# Altium integrated library GanInverter.IntLib: 62 symbols
Pins are listed as number, name and electrical type; pins without a type are passive.

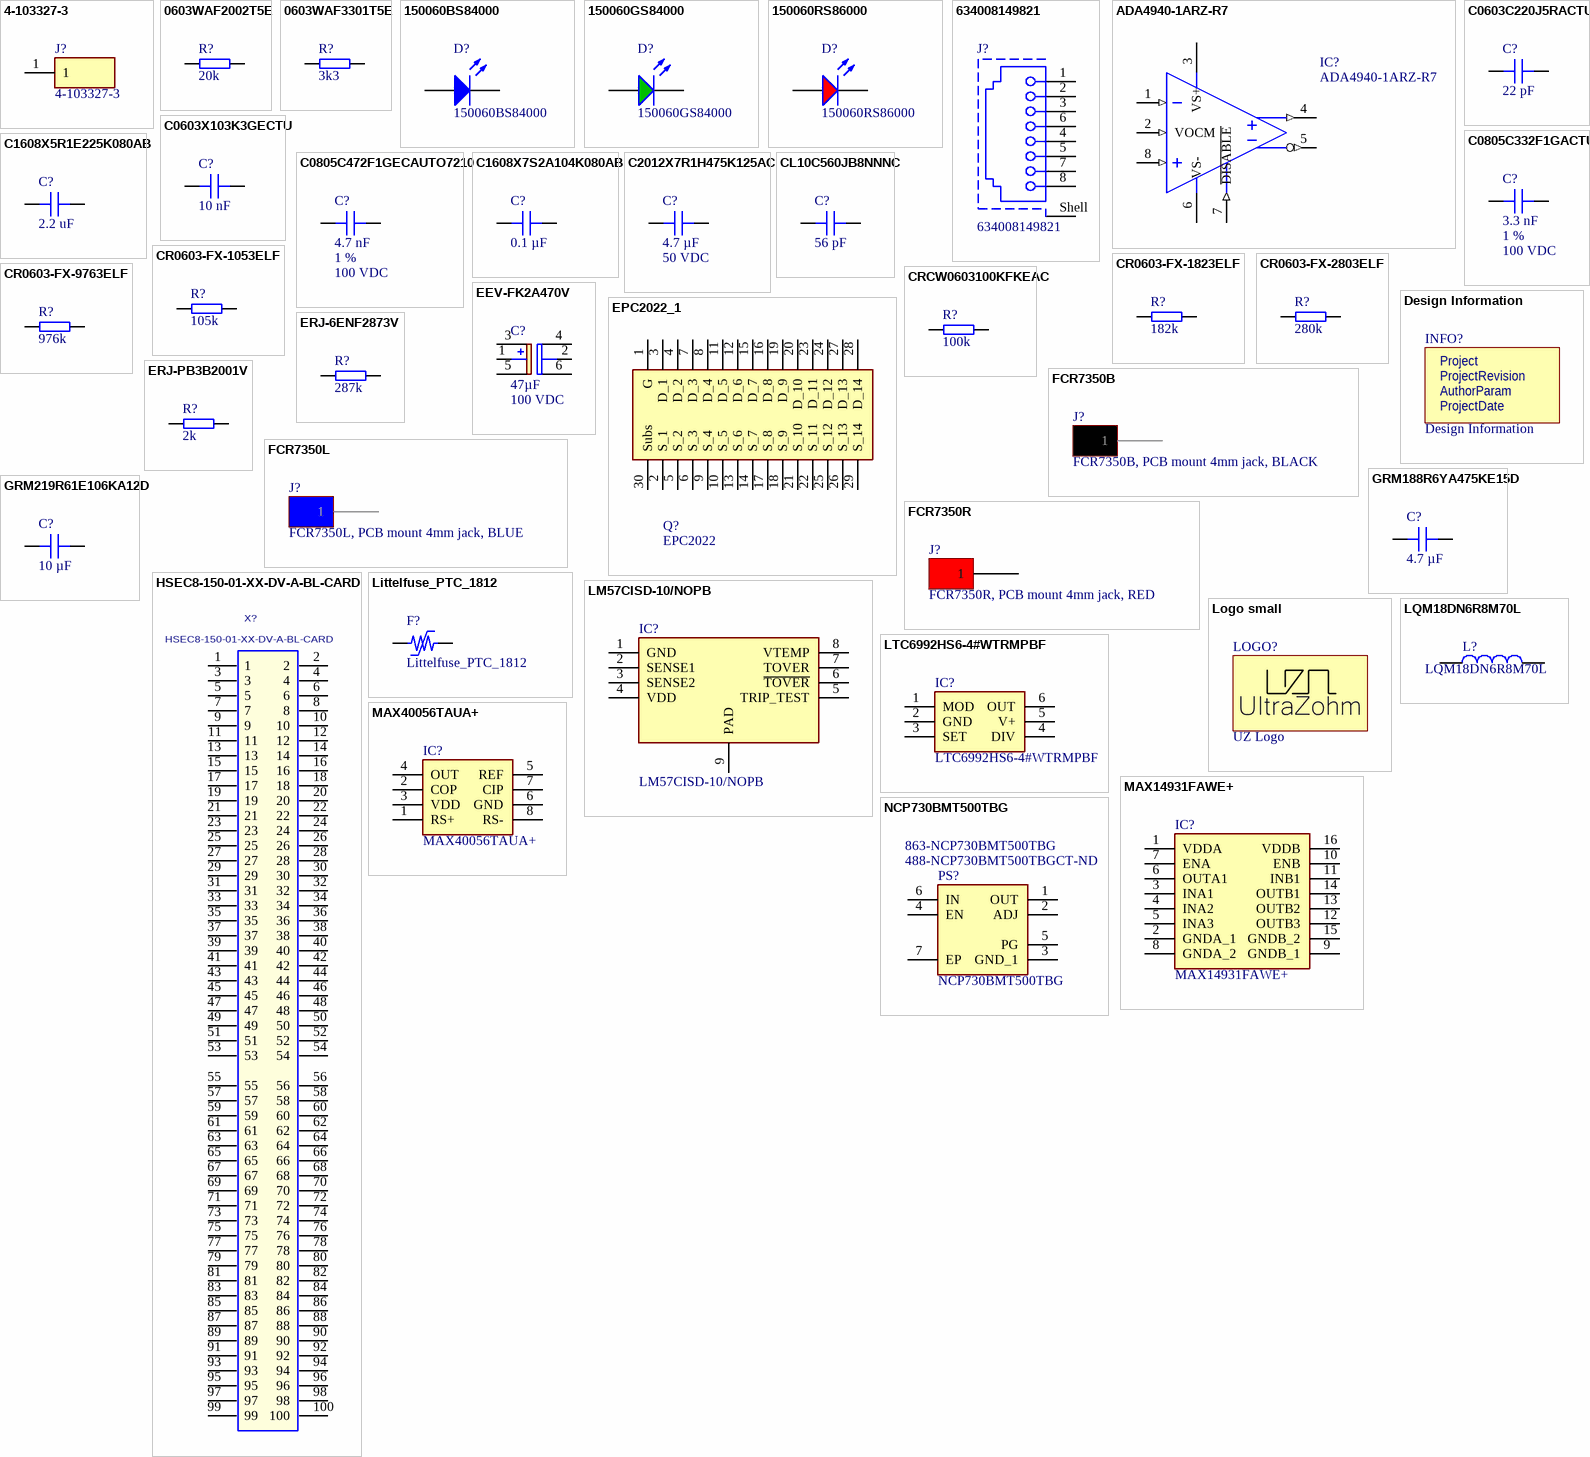
[diagram p0: symbols 4-103327-3 to NCP730BMT500TBG]

## 4-103327-3
designator J?
Pin Header, 2.54mm, 1 Pin; Manufacturer: TE Connectivity; Created from: DHufnagel; Number of positions: 1; Manufacturer Part Number: 4-103327-3; PartID: 12; Created On: 18.08.2022 09:37:37; ComponentLink1Description: Datasheet; ComponentLink1URL: https://www.mouser.de/datasheet/2/418/NG_CD_103327_T_baseFilename-749242.pdf; Component Type: Pin Header; Device Package: THT; Last Updated: 18.08.2022 09:41:31; Mounting Type: THT; Operating Temperature: -65 - 105 °C; Series: AMPMODU MOD II; Supplier 1: Mouser; Supplier Part Number 1: 571-4-103327-3; Type: Pin Header; Live Cycle Status: 1; Stock number: not stored; Number of rows: 1
footprint 1_Pin_Header
pins: 1

## 0603WAF2002T5E
designator R?, comment 20k
SMD resistor E24 series; Manufacturer Part Number: 0603WAF2002T5E; Manufacturer: UNI-ROYAL; Tolerance: 1%; Created from: AGeiger; PartID: 105; Created On: 14.12.2020 16:17:14; ComponentLink1Description: Datasheet; ComponentLink1URL: https://datasheet.lcsc.com/lcsc/2206010230_UNI-ROYAL-Uniroyal-Elec-0603WAF2002T5E_C4184.pdf; Component Type: SMD resistor; Device Package: 0603; Last Updated: 25.08.2022 20:05:50; Mounting Type: SMD; Supplier 1: LCSC; Supplier Part Number 1: C4184; Type: Resistor; Value: 20k; Live Cycle Status: 1; Stock number: Labor SMD Container; LCSC Part Number: C4184
footprint RES 0603_1608
footprint RES 0603_1608 NO TO
pins: 1, 2

## 0603WAF3301T5E
designator R?, comment 3k3
100mW Thick Film Resistors 75V ±100ppm/℃ ±1% -55℃~+155℃ 3.3kΩ 0603  Chip Resistor - Surface Mount ROHS; Manufacturer Part Number: 0603WAF3301T5E; Manufacturer: UNI-ROYAL; Created from: AGeiger; PartID: 245; Created On: 21.09.2022 16:03:17; ComponentLink1Description: Datasheet; ComponentLink1URL: https://datasheet.lcsc.com/lcsc/2206010116_UNI-ROYAL-Uniroyal-Elec-0603WAF3301T5E_C22978.pdf; Component Type: SMD resistor; Device Package: 0603; Last Updated: 21.09.2022 16:03:17; Mounting Type: SMD; Supplier 1: LCSC; Supplier Part Number 1: C22978; Type: Resistor; Tolerance: 1%; Value: 3k3; Live Cycle Status: 1; LCSC Part Number: C22978
footprint RES 0603_1608
pins: 1, 2

## 150060BS84000
designator D?
WL-SMCW SMD Mono-color Chip LED Waterclear Blue; Manufacturer: Wuerth Elektronik; Type: Standard; Created from: MGremer; Forward Current I_f: 20 mA; Forward Voltage U_f: 3.2 V; Wavelength: 470 nm; Light Intensity: 560 mcd; Nominal Power: 78 mW; Manufacturer Part Number: 150060BS84000; PartID: 1; Created On: 08.12.2020 10:19:38; ComponentLink1Description: Datasheet; ComponentLink1URL: https://www.mouser.de/datasheet/2/445/150060BS84000-1838909.pdf; Component Type: LED Diode; Device Package: 0603; Last Updated: 03.03.2021 09:59:51; Mounting Type: SMD; Operating Temperature: -40 - 85 °C; Supplier 1: Mouser; Supplier Part Number 1: 710-150060BS84000; Supplier 2: Farnell; Supplier Part Number 2: 3408611; Supplier 3: Digi-Key; Supplier Part Number 3: 732-150060BS84000CT-ND; Live Cycle Status: 1; Stock number: not stored; Color: blue
footprint WL-SMCW_0603
pins: 1 K, 2 A

## 150060GS84000
designator D?
WL-SMCW SMD Mono-color Chip LED Waterclear Green; Manufacturer: Wuerth Elektronik; Type: Standard; Created from: MGremer; Forward Current I_f: 20 mA; Forward Voltage U_f: 3.2 V; Wavelength: 525 nm; Light Intensity: 3000 mcd; Nominal Power: 78 mW; Manufacturer Part Number: 150060GS84000; PartID: 2; Created On: 08.12.2020 10:41:11; ComponentLink1Description: Datasheet; ComponentLink1URL: https://www.mouser.de/datasheet/2/445/150060GS75020-1714345.pdf; Component Type: LED Diode; Device Package: 0603; Last Updated: 03.03.2021 09:59:51; Mounting Type: SMD; Operating Temperature: -40 - 85 °C; Supplier 1: Mouser; Supplier Part Number 1: 710-150060GS84000; Supplier 2: Farnell; Supplier Part Number 2: 3408612; Supplier 3: Digi-Key; Supplier Part Number 3: 732-150060GS84000CT-ND; Live Cycle Status: 1; Stock number: not stored; Color: green
footprint WL-SMCW_0603
pins: 1 K, 2 A

## 150060RS86000
designator D?
WL-SMCW SMD Mono-color Chip LED Waterclear Red; Manufacturer: Wuerth Elektronik; Type: Standard; Created from: MGremer; Forward Current I_f: 20 mA; Forward Voltage U_f: 2 V; Wavelength: 624 nm; Light Intensity: 800 mcd; Nominal Power: 48 mW; Manufacturer Part Number: 150060RS86000; PartID: 3; Created On: 08.12.2020 10:48:12; ComponentLink1Description: Datasheet; ComponentLink1URL: https://www.mouser.de/datasheet/2/445/150120RS75000-1714636.pdf; Component Type: LED Diode; Device Package: 0603; Last Updated: 03.03.2021 09:59:52; Mounting Type: SMD; Operating Temperature: -40 - 85 °C; Supplier 1: Mouser; Supplier Part Number 1: 710-150060RS86000; Supplier 2: Farnell; Supplier Part Number 2: 3408608; Supplier 3: Digi-Key; Supplier Part Number 3: 732-150060RS86000CT-ND; Live Cycle Status: 1; Stock number: not stored; Color: red
footprint WL-SMCW_0603
pins: 1 K, 2 A

## 634008149821
designator J?
CAT5, RJ45 Connector, 1 port SMD; Manufacturer: Wuerth Elektronik; Match Code: WR-MJ; Contact Resistance: 20mOhm; Insulation Resistance: 500MOhm; LED: No; Number of Ports: 1; Rated Current: 1.5A; Shielding: Yes; Working Voltage: 120VAC; Withstanding Voltage: 1000VAC; Created from: DHufnagel; ComponentLink1Description: Datasheet; ComponentLink1URL: https://www.mouser.de/datasheet/2/445/634008149821-1718453.pdf; ComponentLink2Description: Datasheet; ComponentLink2URL: https://www.we-online.com/redexpert/spec/634008149821?ad; Category: Input/Output Connectors; Manufacturer Part Number: 634008149821; Mount: Surface Mount; Operating Temperature Max: 85°C; Operating Temperature Min: -40°C; Packaging: Tray; Number of Pins: 8P8C; Orientation: Horizontal; PartID: 6; Created On: 15.06.2022 07:42:55; Component Type: RJ45 Connector; Device Package: RJ45; Last Updated: 15.06.2022 07:42:55; Mounting Type: SMD; Series: WR-MJ; Supplier 1: Mouser; Supplier Part Number 1: 710-634008149821; Type: RJ45 Connector; Live Cycle Status: 1; Stock number: not stored
footprint 634008149821
pins: 1, 2, 3, 4, 5, 6, 7, 8, Shell

## ADA4940-1ARZ-R7
designator IC?
Fully Differential Amplifier, Ultralow-Power,Low Distortion, 260-MHz; Manufacturer: Analog Devices; Channels: 1; GBP: 260 MHz; CMRR: 86 dB; Created from: DHufnagel; Manufacturer Part Number: ADA4940-1ARZ-R7; PartID: 14; Created On: 18.08.2022 12:53:27; ComponentLink1Description: Datasheet; ComponentLink1URL: https://www.mouser.de/datasheet/2/609/ada4940_1_4940_2-2955874.pdf; Component Type: Differential Amplifier; Device Package: SOIC-8; Last Updated: 18.08.2022 13:04:18; Mounting Type: SMD; Operating Temperature: -40 - 105°C; Series: ADA4940-1; Supplier 1: Mouser; Supplier Part Number 1: 584-ADA4940-1ARZ; Supplier 2: Digi-Key; Supplier Part Number 2: 505-ADA4940-1ARZ-ND; Supplier 3: LCSC; Supplier Part Number 3: C730049; Type: Differential Amplifiers; Live Cycle Status: 1; LCSC Part Number: C730049; Stock number: not stored
footprint SOT127P600X175-8N
pins: 1 VIN- (in) "Noninverting amplifier input", 2 VOCM (in) "Common-mode voltage input", 3 VS+ (power) "Amplifier positive power-supply input", 4 VOUT+ (out) "Noninverting amplifier output", 5 VOUT- (out) "Inverting amplifier output", 6 VS- (power) "Amplifier negative power-supply input. Note that VS- is tied together on multi-channel devices.", 7 ~{DISABLE} (in) "Disable PIN. PIN = logic high for normal operation. Logic low for disable", 8 VIN+ (in) "Inverting amplifier input"

## C0603C220J5RACTU
designator C?, comment 22 pF
Capacitor 0603, 50 VDC, 22 pF, X7R; Manufacturer Part Number: C0603C220J5RACTU; Manufacturer: KEMET; Tolerance: 5 %; Voltage Rating: 50 VDC; Created from: MGremer; PartID: 78; Created On: 20.12.2020 13:54:13; ComponentLink1Description: Datasheet; ComponentLink1URL: https://www.mouser.de/datasheet/2/212/KEM_C1002_X7R_SMD-1102033.pdf; Component Type: Capacitor 0603; Device Package: 0603; Last Updated: 20.01.2021 13:57:36; Mounting Type: SMD; Operating Temperature: -55 - 125°C; Series: SMD Comm X7R; Supplier 1: Mouser; Supplier Part Number 1: 80-C0603C220J5R; Type: Capacitor; Value: 22 pF; Live Cycle Status: 1; Stock number: not stored
footprint C_0603
pins: 1, 2

## C0603X103K3GECTU
designator C?, comment 10 nF
Capacitor 0603, 25 VDC, 10 nF, C0G; Manufacturer Part Number: C0603X103K3GECTU; Manufacturer: KEMET; Tolerance: 10 %; Voltage Rating: 25 VDC; Created from: DHufnagel; PartID: 114; Created On: 30.11.2022 14:43:11; ComponentLink1Description: Datasheet; ComponentLink1URL: https://www.mouser.de/datasheet/2/212/1/KEM_C1091_C0G_ESD-1140493.pdf; Component Type: Capacitor 0603; Device Package: 0603; Last Updated: 30.11.2022 14:43:11; Mounting Type: SMD; Operating Temperature: -55 - 125°C; Series: ESD SMD Comm C0G Flex; Supplier 1: Mouser; Supplier Part Number 1: 80-C0603X103K3GEC; Type: Capacitor; Value: 10 nF; Live Cycle Status: 1; Stock number: not stored
footprint C_0603
pins: 1, 2

## C0805C332F1GACTU
designator C?, comment 3.3 nF  Tolerance: 1 %  Voltage Rating: 100 VDC
Capacitor 0805, 100 VDC, 3.3 nF, C0G; Manufacturer Part Number: C0805C332F1GACTU; Manufacturer: KEMET; Created from: DHufnagel; PartID: 93; Created On: 13.07.2022 13:54:13; ComponentLink1Description: Datasheet; ComponentLink1URL: https://www.mouser.de/ProductDetail/KEMET/C0805C332F1GACTU?qs=Fn3VdHBzkckTNao1WkcUxA%3D%3D; Component Type: Capacitor 0805; Device Package: 0805; Last Updated: 13.07.2022 14:55:44; Mounting Type: SMD; Operating Temperature: -55 - 125°C; Series: C0G; Supplier 1: Mouser; Supplier Part Number 1: 80-C0805C332F1G; Type: Capacitor; Value: 3.3 nF; Live Cycle Status: 1; Stock number: not stored
footprint C_0805
pins: 1, 2

## C0805C472F1GECAUTO7210
designator C?, comment 4.7 nF  Tolerance: 1 %  Voltage Rating: 100 VDC
Capacitor 0805, 100 VDC, 4.7 nF, C0G; Manufacturer Part Number: C0805C472F1GECAUTO7210; Manufacturer: KEMET; Created from: DHufnagel; PartID: 94; Created On: 13.07.2022 13:54:13; ComponentLink1Description: Datasheet; ComponentLink1URL: https://www.mouser.de/datasheet/2/212/1/KEM_C1091_C0G_ESD-1140493.pdf; Component Type: Capacitor 0805; Device Package: 0805; Last Updated: 13.07.2022 14:55:44; Mounting Type: SMD; Operating Temperature: -55 - 125°C; Series: C0G; Supplier 1: Mouser; Supplier Part Number 1: 80-C0805C472F1GEAULR; Type: Capacitor; Value: 4.7 nF; Live Cycle Status: 1; Stock number: not stored
footprint C_0805
pins: 1, 2

## C1608X5R1E225K080AB
designator C?, comment 2.2 uF
Capacitor 0603, 25 VDC, 2.2 uF, X5R; Manufacturer Part Number: C1608X5R1E225K080AB; Manufacturer: TDK; Tolerance: 10 %; Voltage Rating: 25VDC; Created from: DHufnagel; PartID: 96; Created On: 20.07.2022 09:02:16; ComponentLink1Description: Datasheet; ComponentLink1URL: https://product.tdk.com/system/files/dam/doc/product/capacitor/ceramic/mlcc/catalog/mlcc_commercial_general_en.pdf?ref_disty=mouser; Component Type: Capacitor 0603; Device Package: 0603; Last Updated: 20.07.2022 09:02:16; Mounting Type: SMD; Operating Temperature: -55 - 85°C; Series: X5R; Supplier 1: Mouser; Supplier Part Number 1: 810-C1608X5R1E225K; Supplier 2: LCSC; Supplier Part Number 2: C2167215; Type: Capacitor; Value: 2.2 uF; Live Cycle Status: 1; LCSC Part Number: C2167215; Stock number: not stored
footprint C_0603
pins: 1, 2

## C1608X7S2A104K080AB
designator C?, comment 0.1 µF
Capacitor 0805, 100 VDC, 0.1 uF, X7S; Manufacturer Part Number: C1608X7S2A104K080AB; Manufacturer: TDK; Tolerance: 10 %; Voltage Rating: 100 VDC; Created from: DHufnagel; PartID: 112; Created On: 20.12.2020 13:54:13; ComponentLink1Description: Datasheet; ComponentLink1URL: https://product.tdk.com/system/files/dam/doc/product/capacitor/ceramic/mlcc/catalog/mlcc_commercial_midvoltage_en.pdf?ref_disty=mouser; Component Type: Capacitor 0805; Device Package: 0805; Last Updated: 04.10.2022 13:03:53; Mounting Type: SMD; Operating Temperature: -55 - 125°C; Series: C; Supplier 1: Mouser; Supplier Part Number 1: 810-C1608X7S2A104K; Type: Capacitor; Value: 0.1 µF; Live Cycle Status: 1; Stock number: not stored
footprint C_0603
pins: 1, 2

## C2012X7R1H475K125AC
designator C?, comment 4.7 µF  Voltage Rating: 50 VDC
Capacitor 0805, 50 VDC, 4.7 µF, X7R; Manufacturer Part Number: C2012X7R1H475K125AC; Manufacturer: TDK; Tolerance: 10 %; Created from: MGremer; PartID: 15; Created On: 20.12.2020 13:54:13; ComponentLink1Description: Datasheet; ComponentLink1URL: https://product.tdk.com/info/en/catalog/datasheets/mlcc_commercial_general_en.pdf; Component Type: Capacitor 0805; Device Package: 0805; Last Updated: 20.12.2020 16:34:30; Mounting Type: SMD; Operating Temperature: -55 - 125°C; Series: C; Supplier 1: Mouser; Supplier Part Number 1: 810-C2012X7R475K125C; Type: Capacitor; Value: 4.7 µF; Live Cycle Status: 1; Stock number: Labor SMD Container
footprint C_0805
pins: 1, 2

## CL10C560JB8NNNC
designator C?, comment 56 pF
Capacitor 0603, 50 VDC, 56 pF, C0G; Manufacturer Part Number: CL10C560JB8NNNC; Manufacturer: Samsung Electro-Mechanics; Tolerance: 5 %; Voltage Rating: 50 VDC; Created from: DHufnagel; PartID: 92; Created On: 20.12.2020 13:54:13; ComponentLink1Description: Datasheet; ComponentLink1URL: https://www.mouser.de/datasheet/2/585/MLCC-1837944.pdf; Component Type: Capacitor 0603; Device Package: 0603; Last Updated: 20.12.2020 16:24:16; Mounting Type: SMD; Operating Temperature: -55 - 125°C; Series: CL; Supplier 1: Mouser; Supplier Part Number 1: 187-CL10C560JB8NNNC; Supplier 2: LCSC; Supplier Part Number 2: C39148; Type: Capacitor; Value: 56 pF; Live Cycle Status: 1; LCSC Part Number: C39148; Stock number: not stored
footprint C_0603
pins: 1, 2

## CR0603-FX-1053ELF
designator R?, comment 105k
SMD resistor 1%, 50V, 100ppm; Manufacturer Part Number: CR0603-FX-1053ELF; Manufacturer: Bourns; Created from: DHufnagel; PartID: 232; Created On: 25.07.2022 08:26:35; ComponentLink1Description: Datasheet; ComponentLink1URL: https://www.mouser.de/datasheet/2/54/cr-1858361.pdf; Component Type: SMD resistor; Device Package: 0603; Last Updated: 25.07.2022 08:35:07; Mounting Type: SMD; Supplier 1: Mouser; Supplier Part Number 1: 652-CR0603-FX1053ELF; Type: Resistor; Tolerance: 1%; Value: 105k; Live Cycle Status: 1; Stock number: not stored
footprint RES 0603_1608
footprint RES 0603_1608 NO TO
pins: 1, 2

## CR0603-FX-1823ELF
designator R?, comment 182k
SMD resistor 1%, 50V, 100ppm; Manufacturer Part Number: CR0603-FX-1823ELF; Manufacturer: Bourns; Created from: DHufnagel; PartID: 235; Created On: 25.07.2022 08:26:35; ComponentLink1Description: Datasheet; ComponentLink1URL: https://www.mouser.de/datasheet/2/54/cr-1858361.pdf; Component Type: SMD resistor; Device Package: 0603; Last Updated: 25.07.2022 08:26:35; Mounting Type: SMD; Supplier 1: Mouser; Supplier Part Number 1: 652-CR0603FX-1823ELF; Type: Resistor; Tolerance: 1%; Value: 182k; Live Cycle Status: 1; Stock number: not stored
footprint RES 0603_1608
footprint RES 0603_1608 NO TO
pins: 1, 2

## CR0603-FX-2803ELF
designator R?, comment 280k
SMD resistor 1%, 50V, 100ppm; Manufacturer Part Number: CR0603-FX-2803ELF; Manufacturer: Bourns; Created from: DHufnagel; PartID: 233; Created On: 25.07.2022 08:26:35; ComponentLink1Description: Datasheet; ComponentLink1URL: https://www.mouser.de/datasheet/2/54/cr-1858361.pdf; Component Type: SMD resistor; Device Package: 0603; Last Updated: 25.07.2022 08:26:35; Mounting Type: SMD; Supplier 1: Mouser; Supplier Part Number 1: 652-CR0603-FX2803ELF; Type: Resistor; Tolerance: 1%; Value: 280k; Live Cycle Status: 1; Stock number: not stored
footprint RES 0603_1608
footprint RES 0603_1608 NO TO
pins: 1, 2

## CR0603-FX-9763ELF
designator R?, comment 976k
SMD resistor 1%, 50V, 100ppm; Manufacturer Part Number: CR0603-FX-9763ELF; Manufacturer: Bourns; Created from: DHufnagel; PartID: 234; Created On: 25.07.2022 08:26:35; ComponentLink1Description: Datasheet; ComponentLink1URL: https://www.mouser.de/datasheet/2/54/cr-1858361.pdf; Component Type: SMD resistor; Device Package: 0603; Last Updated: 25.07.2022 08:26:35; Mounting Type: SMD; Supplier 1: Mouser; Supplier Part Number 1: 652-CR0603FX-9763ELF; Type: Resistor; Tolerance: 1%; Value: 976k; Live Cycle Status: 1; Stock number: not stored
footprint RES 0603_1608
footprint RES 0603_1608 NO TO
pins: 1, 2

## CRCW0603100KFKEAC
designator R?, comment 100k
SMD resistor 1%; Manufacturer Part Number: CRCW0603100KFKEAC; Manufacturer: Vishay; Created from: MGremer; PartID: 181; Created On: 14.12.2020 16:17:14; ComponentLink1Description: Datasheet; ComponentLink1URL: https://www.mouser.de/datasheet/2/427/crcwce3-1762584.pdf; Component Type: SMD resistor; Device Package: 0603; Last Updated: 21.05.2021 10:03:40; Mounting Type: SMD; Supplier 1: Mouser; Supplier Part Number 1: 71-CRCW0603100KFKEAC; Type: Resistor; Tolerance: 1%; Value: 100k; Live Cycle Status: 1; Stock number: not stored
footprint RES 0603_1608
footprint RES 0603_1608 NO TO
pins: 1, 2

## Design Information
designator INFO?  (no BOM)
Manufacturer: UltraZohm; Created from: MGremer; Manufacturer Part Number: Design Information; PartID: 12; Created On: 03.11.2021 09:04:23; ComponentLink1Description: https://docs.ultrazohm.com/; ComponentLink1URL: homepage; Component Type: Design Information; Last Updated: 03.11.2021 09:28:34; Supplier 1: -; Supplier Part Number 1: -; Type: Design Information; Value: Design Information; Live Cycle Status: 1
footprint Design_info
text: Project; ProjectRevision; AuthorParam; ProjectDate

## EEV-FK2A470V
designator C?, comment 47µF  Voltage Rating: 100 VDC
13.8x12.5x13.8mm, 100 VDC,  47 µF; Manufacturer Part Number: EEV-FK2A470V; Manufacturer: Panasonic; Type: Capacitor_Polarized; Tolerance: 20 %; Created from: DHufnagel; PartID: 100; Created On: 14.07.2022 14:09:22; ComponentLink1Description: Datasheet; ComponentLink1URL: https://www.mouser.de/datasheet/2/315/ABA0000C1181-947564.pdf; Component Type: Capacitor Al Electrolyt; Device Package: H13; Last Updated: 19.08.2022 08:53:39; Mounting Type: SMD; Operating Temperature: -55 - 105°C; Series: FK-V; Supplier 1: Mouser; Supplier Part Number 1: 667-EEV-FK2A470V; Value: 47µF; Live Cycle Status: 1; Stock number: not stored
footprint EEEFK0J332AV
pins: 1 +_1, 2 -_1, 3 +_2, 4 +_3, 5 -_2, 6 -_3

## EPC2022_1
designator Q?, comment EPC2022
Ganfet N-ch 100V 60A Die; Manufacturer: EPC; Rds On Max: 3.2mR; Input Capacitance: 1.5nF; Supplier 1: Digi-Key; Manufacturer Part Number: EPC2022; RoHS: Yes; Stock 1: 8337; Pricing 1: 1=8,46000, 10=7,63900, 100=6,32430, 500=5,50716 (USD); Mount: Surface Mount; Packaging: Cut Tape; Drain to Source Voltage (Vdss): 100V; Continuous Drain Current (ID): 60A; ComponentLink1URL: http://epc-co.com/epc/Portals/0/epc/documents/datasheets/EPC2022_datasheet.pdf?src-supplier=Digi-Key; ComponentLink1Description: http://epc-co.com/epc/Portals/0/epc/documents/datasheets/EPC2022_datasheet.pdf?src-supplier=Digi-Key
footprint EPC2022
pins: 1 G, 2 S_1, 3 D_1, 4 D_2, 5 S_2, 6 S_3, 7 D_3, 8 D_4, 9 S_4, 10 S_5, 11 D_5, 12 D_6, 13 S_6, 14 S_7, 15 D_7, 16 D_8, 17 S_8, 18 S_9, 19 D_9, 20 D_10, 21 S_10, 22 S_11, 23 D_11, 24 D_12, 25 S_12, 26 S_13, 27 D_13, 28 D_14, 29 S_14, 30 Subs

## ERJ-6ENF2873V
designator R?, comment 287k
SMD resistor 1%; Manufacturer Part Number: ERJ-6ENF2873V; Manufacturer: Panasonic; Created from: MGremer; PartID: 154; Created On: 14.12.2020 16:17:14; ComponentLink1Description: Datasheet; ComponentLink1URL: https://www.mouser.de/datasheet/2/315/AOA0000C304-1149620.pdf; Component Type: SMD resistor; Device Package: 0805; Last Updated: 14.12.2020 18:22:52; Mounting Type: SMD; Supplier 1: Mouser; Supplier Part Number 1: 667-ERJ-6ENF2873V; Type: Resistor; Tolerance: 1%; Value: 287k; Live Cycle Status: 1; Stock number: not stored
footprint RES 0805_2012
pins: 1, 2

## ERJ-PB3B2001V
designator R?, comment 2k
SMD resistor 0.1%; Manufacturer Part Number: ERJ-PB3B2001V; Manufacturer: Panasonic; Created from: DHufnagel; PartID: 215; Created On: 14.12.2020 16:17:14; ComponentLink1Description: Datasheet; ComponentLink1URL: https://www.mouser.de/datasheet/2/315/AOA0000C328-1530132.pdf; Component Type: SMD resistor; Device Package: 0603; Last Updated: 02.03.2021 14:07:32; Mounting Type: SMD; Supplier 1: Mouser; Supplier Part Number 1: 667-ERJ-PB3B2001V; Type: Resistor; Tolerance: 0.1%; Value: 2k; Live Cycle Status: 1; Stock number: not stored; Supplier 2: LCSC; Supplier Part Number 2: C189729; LCSC Part Number: C189729
footprint RES 0603_1608
footprint RES 0603_1608 NO TO
pins: 1, 2

## FCR7350B
designator J?, comment FCR7350B, PCB mount 4mm jack, BLACK
FCR7350B, 1000V, 24A, BLACK; Manufacturer: Cliff; Value: PCB mount 4mm jack, Black	FCR7350B, 1000V, 24A; Created from: DHufnagel; Manufacturer Part Number: FCR7350B; PartID: 6; Created On: 13.06.2022 10:18:11; ComponentLink1Description: datasheet; ComponentLink1URL: https://www.cliffuk.co.uk/products/testleads/sockets/S16NPC.pdf; ComponentLink2Description: drawing; ComponentLink2URL: https://media.digikey.com/pdf/Data%20Sheets/Cliff%20Electronic%20LTD%20PDF's/FCR7350_Drawing.pdf; Component Type: PCB mount 4mm jack, Black; Device Package: THT; Last Updated: 28.06.2022 13:58:37; Minimum Order: 1; Mounting Type: THT; Operating Temperature: -40°C - 80°C; Series: S16N-PC; Supplier 1: Digi-Key; Supplier Part Number 1: 3185-FCR7350B-ND; Supplier 2: farnell; Supplier Part Number 2: 1854507; Type: PCB mount 4mm jack, Black	FCR7350B, 1000V, 24A; Live Cycle Status: 1; Stock number: not stored
footprint FCR7350
pins: 1

## FCR7350L
designator J?, comment FCR7350L, PCB mount 4mm jack, BLUE
FCR7350B, 1000V, 24A, BLUE; Manufacturer: Cliff; Value: PCB mount 4mm jack, Blue FCR7350L, 1000V, 24A; Created from: DHufnagel; Manufacturer Part Number: FCR7350L; PartID: 8; Created On: 13.06.2022 10:18:11; ComponentLink1Description: datasheet; ComponentLink1URL: https://www.cliffuk.co.uk/products/testleads/sockets/S16NPC.pdf; ComponentLink2Description: drawing; ComponentLink2URL: https://media.digikey.com/pdf/Data%20Sheets/Cliff%20Electronic%20LTD%20PDF's/FCR7350_Drawing.pdf; Component Type: PCB mount 4mm jack, Blue; Device Package: THT; Last Updated: 28.06.2022 13:58:37; Minimum Order: 1; Mounting Type: THT; Operating Temperature: -40°C - 80°C; Series: S16N-PC; Supplier 1: Digi-Key; Supplier Part Number 1: 3185-FCR7350L-ND; Supplier 2: farnell; Supplier Part Number 2: 1854511; Type: PCB mount 4mm jack, Blue FCR7350L, 1000V, 24A; Live Cycle Status: 1; Stock number: not stored
footprint FCR7350
pins: 1

## FCR7350R
designator J?, comment FCR7350R, PCB mount 4mm jack, RED
FCR7350B, 1000V, 24A, RED; Manufacturer: Cliff; Value: PCB mount 4mm jack, Red FCR7350R, 1000V, 24A; Created from: DHufnagel; Manufacturer Part Number: FCR7350R; PartID: 7; Created On: 13.06.2022 10:18:11; ComponentLink1Description: datasheet; ComponentLink1URL: https://www.cliffuk.co.uk/products/testleads/sockets/S16NPC.pdf; ComponentLink2Description: drawing; ComponentLink2URL: https://media.digikey.com/pdf/Data%20Sheets/Cliff%20Electronic%20LTD%20PDF's/FCR7350_Drawing.pdf; Component Type: PCB mount 4mm jack, Red; Device Package: THT; Last Updated: 28.06.2022 13:58:37; Minimum Order: 1; Mounting Type: THT; Operating Temperature: -40°C - 80°C; Series: S16N-PC; Supplier 1: Digi-Key; Supplier Part Number 1: 3185-FCR7350R-ND; Supplier 2: farnell; Supplier Part Number 2: 1854508; Type: PCB mount 4mm jack, Red FCR7350R, 1000V, 24A; Live Cycle Status: 1; Stock number: not stored
footprint FCR7350
pins: 1

## GRM188R6YA475KE15D
designator C?, comment 4.7 µF
Capacitor 0603, 35 VDC, 4.7 µF, X5R; Manufacturer Part Number: GRM188R6YA475KE15D; Manufacturer: muRata; Tolerance: 10 %; Voltage Rating: 35 VDC; Created from: MGremer; PartID: 11; Created On: 20.12.2020 13:54:13; ComponentLink1Description: Datasheet; ComponentLink1URL: https://www.mouser.de/datasheet/2/281/murata_03052018_GRM_Series_1-1310166.pdf; Component Type: Capacitor 0603; Device Package: 0603; Last Updated: 20.12.2020 16:34:30; Mounting Type: SMD; Operating Temperature: -55 - 85°C; Series: GRM; Supplier 1: Mouser; Supplier Part Number 1: 81-GRM188R6YA475KE5D; Type: Capacitor; Value: 4.7 µF; Live Cycle Status: 1; Stock number: Labor SMD Container
footprint C_0603
pins: 1, 2

## GRM219R61E106KA12D
designator C?, comment 10 µF
Capacitor 0805, 25 VDC, 10 µF, X5R; Manufacturer Part Number: GRM219R61E106KA12D; Manufacturer: muRata; Tolerance: 10 %; Voltage Rating: 25 VDC; Created from: MGremer; PartID: 13; Created On: 20.12.2020 13:54:13; ComponentLink1Description: Datasheet; ComponentLink1URL: https://www.mouser.de/datasheet/2/281/murata_03052018_GRM_Series_1-1310166.pdf; Component Type: Capacitor 0805; Device Package: 0805; Last Updated: 27.05.2022 14:14:39; Mounting Type: SMD; Operating Temperature: -55 - 85°C; Series: GRM; Supplier 1: Mouser; Supplier Part Number 1: 81-GRM219R61E106KA2D; Type: Capacitor; Value: 10 µF; Live Cycle Status: 1; Stock number: Labor SMD Container; LCSC Part Number: C15850
footprint C_0805
pins: 1, 2

## HSEC8-150-01-XX-DV-A-BL-CARD
designator X?  (no BOM)
Mating Card Layout for HSEC8-150-01-XX-DV-A-BL; Manufacturer: SAMTEC; Created: 2018_04_23_AGeiger; Value: HSEC8-150-01-XX-DV-A-BL-CARD
footprint HSEC8-150-01-XX-DV-A-BL-CARD
pins: 1, 2, 3, 4, 5, 6, 7, 8, 9, 10, 11, 12, 13, 14, 15, 16, 17, 18, 19, 20, 21, 22, 23, 24, 25, 26, 27, 28, 29, 30, 31, 32, 33, 34, 35, 36, 37, 38, 39, 40, 41, 42, 43, 44, 45, 46, 47, 48, 49, 50, 51, 52, 53, 54, 55, 56, 57, 58, 59, 60, 61, 62, 63, 64, 65, 66, 67, 68, 69, 70, 71, 72, 73, 74, 75, 76, 77, 78, 79, 80, 81, 82, 83, 84, 85, 86, 87, 88, 89, 90, 91, 92, 93, 94, 95, 96, 97, 98, 99, 100

## Littelfuse_PTC_1812
designator F?
POLYSWITCH RESETTABLE DEVICES; MPN: miniASMDC110F/24; Value: PTC, 1.1 A, 24V; Voltage: 24V; Trip Current: 2.2A; Hold Current: 1.1A; Resistance: 0.18 Ohm; Type: Fuse; Nominal current: 1 A; Created from: MHlatky; MF: Littelfuse; Created: 2019_02_10_AGeiger; Package: 1812; ComponentLink1URL: https://www.littelfuse.com/~/media/electronics/datasheets/resettable_ptcs/littelfuse_ptc_surface_mount_catalog_datasheet.pdf.pdf; ComponentLink1Description: Datasheet; Manufacturer Part Number: Littelfuse_PTC_1812; PartID: 5; Created On: 07.05.2021 06:50:33; Component Type: Littelfuse_PTC_1812; Last Updated: 27.05.2022 15:06:17; Manufacturer: Littelfuse; Mounting Type: SMD; Operating Temperature: -40 - 85 °C; Supplier 1: Mouser; Supplier Part Number 1: 530-0ZCG0150BF2C; Live Cycle Status: 1; LCSC Part Number: C70119
footprint 1812_PTC_Polyfuse_Littelfuse (Chip Fuse, 2-Leads, Body 4.6x3.24mm)
pins: 1, 2

## LM57CISD-10/NOPB
designator IC?
Board Mount Temperature Sensor, -50 - 150°C; Manufacturer: Texas Instruments; Created from: DHufnagel; Manufacturer Part Number: LM57CISD-10/NOPB; PartID: 5; Created On: 30.06.2022 08:21:10; ComponentLink1Description: Datasheet; ComponentLink1URL: https://www.ti.com/general/docs/suppproductinfo.tsp?distId=26&gotoUrl=https://www.ti.com/lit/gpn/lm57; Component Type: Temperature Sensors; Device Package: WSON-8; Last Updated: 30.06.2022 08:21:20; Mounting Type: SMD; Operating Temperature: -50 - 150°C; Supplier 1: Mouser; Supplier Part Number 1: 926-LM57CISD-10/NOPB; Supplier 2: Digi-Key; Supplier Part Number 2: LM57CISD-10/NOPBCT-ND; Type: Temperature Sensor; Live Cycle Status: 1; Stock number: not stored
footprint SON50P250X250X80-9N
pins: 1 GND, 2 SENSE1, 3 SENSE2, 4 VDD, 5 TRIP_TEST, 6 ~{TOVER}, 7 TOVER, 8 VTEMP, 9 PAD

## Logo small
designator LOGO?, comment UZ Logo  (no BOM)
Manufacturer Part Number: Logo small; Manufacturer: UltraZohm; Created from: MGremer; Created: Jan2021_Liegmann; Value: Logo; PartID: 10; Created On: 03.11.2021 09:04:23; ComponentLink1Description: https://docs.ultrazohm.com/; ComponentLink1URL: homepage; Component Type: Logo; Last Updated: 03.11.2021 09:05:50; Supplier 1: -; Supplier Part Number 1: -; Type: Logo; Live Cycle Status: 1
footprint UZ_Logo_small

## LQM18DN6R8M70L
designator L?
6.8µH, 120mA, 0603, 740mOhm, 20%; MPN: B82464G4154M; Manufacturer: Murata; MF: EPCOS / TDK; Value: 6.8uH; DCR: 320m; Rated Current: 0.85 A; Type: fixed inductor; Created from: DHufnagel; Supplier 1: Mouser; Supplier Part Number 1: 81-LQM18DN6R8M70L; Manufacturer Part Number: LQM18DN6R8M70L; PartID: 10; Created On: 19.07.2022 15:47:17; ComponentLink1Description: Datasheet; ComponentLink1URL: https://www.mouser.de/datasheet/2/281/1/JELF243B_0086-2298241.pdf; Component Type: SMD fixed inductor; Device Package: SMD; Last Updated: 19.07.2022 15:47:44; Mounting Type: SMD; Operating Temperature: -40 - 125°C; Series: LQM18DN_70; Supplier 2: Digi-Key; Supplier Part Number 2: 490-LQM18DN6R8M70LCT-ND; DC current: 120mA; Live Cycle Status: 1; Stock number: not stored
footprint INDC1608X95N
pins: 1, 2

## LTC6992HS6-4#WTRMPBF
designator IC?
Switching Controllers PWM with 5% to 100% Pulse Width Control; Manufacturer: Analog Devices; Created from: DHufnagel; Manufacturer Part Number: LTC6992HS6-4#WTRMPBF; PartID: 9; Created On: 20.07.2022 14:30:26; ComponentLink1Description: Datasheet; ComponentLink1URL: https://www.mouser.de/datasheet/2/609/LTC6992-1-6992-2-6992-3-6992-4-1852873.pdf; Component Type: Switching Controllers; Device Package: SOT-23-6; Last Updated: 20.07.2022 14:30:26; Mounting Type: SMD; Operating Temperature: -40 - 125°C; Supplier 1: Mouser; Supplier Part Number 1: 584-6992HS64WTRMPBF; Type: Switching Controller; Live Cycle Status: 1; Stock number: not stored
footprint SOT95P280X100-6N
pins: 1 MOD, 2 GND, 3 SET, 4 DIV, 5 V+, 6 OUT

## MAX14931FAWE+
designator IC?
Digital Isolator 16-Pin SOIC W Tube; Manufacturer: Maxim; Number of Channels: 4; Channel Type: Unidirectional; Data Rate: 150Mbps; Propagation Delay: 7.4ns; Isolated Power: No; Pulse Width Distortion (PWD): 1ns; Manufacturer Part Number: MAX14931FAWE+; RoHS: Yes; Category: Interface ICs; Pricing 1: 138=3,67000 (EUR); Case/Package: SOIC; Min Operating Temperature: -40°C; Max Operating Temperature: 125°C; Packaging: Rail/Tube; Type: General Purpose; RoHS Compliant: Yes; ComponentLink1URL: https://datasheets.maximintegrated.com/en/ds/MAX14130-MAX14932.pdf?src-supplier=Digi-Key; ComponentLink1Description: https://datasheets.maximintegrated.com/en/ds/MAX14130-MAX14932.pdf?src-supplier=Digi-Key; Supplier 1: Mouser; Supplier Part Number 1: 700-MAX14931FAWE+
footprint SOIC-16 (SOIC, 16-Leads, Body 10.5x7.6mm, Pitch 1.27mm, IPC Low Density)
pins: 1 VDDA, 2 GNDA_1, 3 INA1, 4 INA2, 5 INA3, 6 OUTA1, 7 ENA, 8 GNDA_2, 9 GNDB_1, 10 ENB, 11 INB1, 12 OUTB3, 13 OUTB2, 14 OUTB1, 15 GNDB_2, 16 VDDB

## MAX40056TAUA+
designator IC?
Current Sense Amplifier, 300kHz, -0.1V to 65V CMV, 2 Channel; Manufacturer_Name: Maxim Integrated; Channels: 2; CMRR: 140dB; Created from: DHufnagel; Datasheet Link: https://pdfserv.maximintegrated.com/en/ds/MAX40056F-MAX40056U.pdf; Height: 1.1mm; Manufacturer_Part_Number: MAX40056TAUA+; Mouser Part Number: 700-MAX40056TAUA+; Mouser Price/Stock: https://www.mouser.co.uk/ProductDetail/Maxim-Integrated/MAX40056TAUA%2b?qs=wnTfsH77Xs6U0RpBmDIzAw%3D%3D; Arrow Part Number: MAX40056TAUA+; Arrow Price/Stock: https://www.arrow.com/en/products/max40056taua/maxim-integrated?region=nac; Manufacturer Part Number: MAX40056TAUA+; PartID: 17; Created On: 25.11.2022 14:49:51; ComponentLink1Description: Datasheet; ComponentLink1URL: https://datasheets.maximintegrated.com/en/ds/MAX40056F-MAX40056U.pdf; Component Type: Operational Amplifier; Device Package: uMAX-8; Last Updated: 25.11.2022 14:49:51; Manufacturer: Maxim Integrated; Mounting Type: SMD; Operating Temperature: -40 to +125°C; Series: MAX40056; Supplier 1: Mouser; Supplier Part Number 1: 700-MAX40056TAUA+; Type: Current Sense Amplifier; GBP: 300 kHz; Live Cycle Status: 1; Stock number: not stored
footprint SOP65P490X110-8N
pins: 1 RS+, 2 COP, 3 VDD, 4 OUT, 5 REF, 6 GND, 7 CIP, 8 RS-

## NCP730BMT500TBG
designator PS?  Supplier Part Number 1: 488-NCP730BMT500TBGCT-ND  Supplier Part Number 2: 863-NCP730BMT500TBG
LDO Regulator, 150 mA, 38 V, 1 uA IQ, with PG 5V0 HZ, WDFN6 2x2; Manufacturer: ON Semiconductor; Manufacturer Part Number: NCP730BMT500TBG; RoHS: Yes; Category: Voltage Regulators - Linear; Stock 1: 2129; Pricing 1: 1=1,12000, 10=1,00200, 25=0,95080, 100=0,78090, 250=0,72996, 500=0,64508, 1000=0,50928 (USD); Supplier 1: Digi-Key; Supplier 2: Mouser
footprint SON65P200X200X80-7N
pins: 1 OUT, 2 ADJ, 3 GND_1, 4 EN, 5 PG, 6 IN, 7 EP

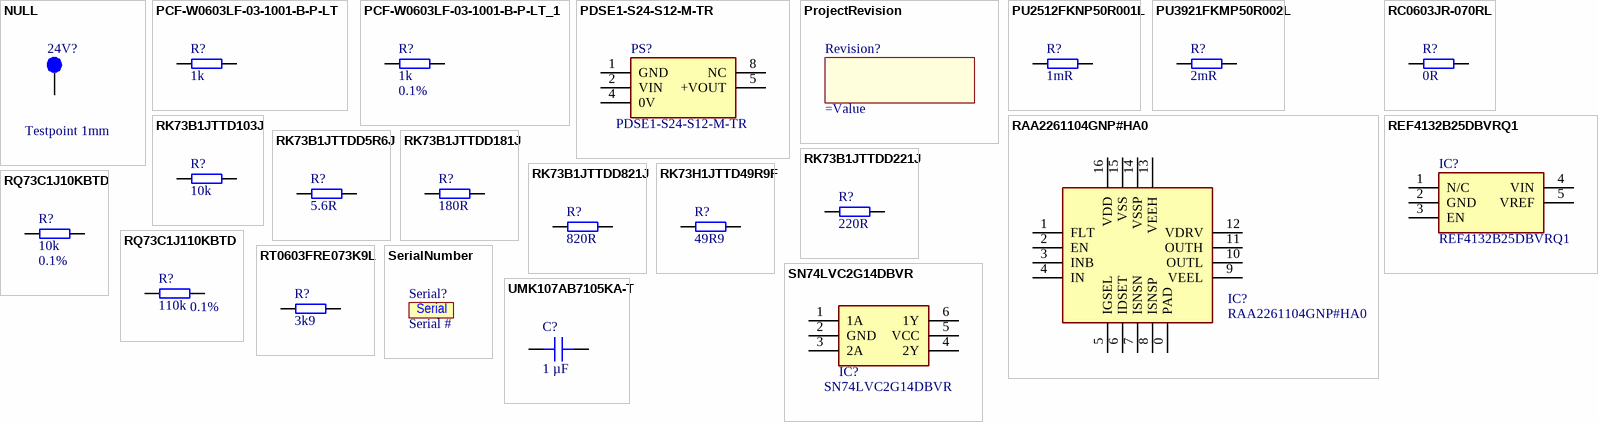
[diagram p1: symbols NULL to UMK107AB7105KA-T]

## NULL
designator 24V?, comment Testpoint 1mm
Manufacturer Part Number: NULL; Created from: AGeiger; Created: 2018_06_25_AGeiger; Value: Testpoint 1mm; PartID: 9; Created On: 20.09.2022 13:14:57; Component Type: Testpoint; Last Updated: 20.09.2022 13:15:39; Manufacturer: NULL; Supplier 1: NULL; Supplier Part Number 1: NULL; Type: Testpoint; Live Cycle Status: 1
footprint TP_1mm
pins: 1

## PCF-W0603LF-03-1001-B-P-LT
designator R?, comment 1k
SMD resistor 0.1%; Manufacturer Part Number: PCF-W0603LF-03-1001-B-P-LT; Manufacturer: IRC / TT Electronics; Created from: MGremer; PartID: 163; Created On: 14.12.2020 16:17:14; ComponentLink1Description: Datasheet; ComponentLink1URL: https://www.mouser.de/datasheet/2/414/PCF-1528243.pdf; Component Type: SMD resistor; Device Package: 0603; Last Updated: 02.03.2021 14:07:32; Mounting Type: SMD; Supplier 1: Mouser; Supplier Part Number 1: 66-PCFW0603LF031001B; Type: Resistor; Tolerance: 0.1%; Value: 1k; Live Cycle Status: 1; Stock number: not stored
footprint RES 0603_1608
footprint RES 0603_1608 NO TO
pins: 1, 2

## PCF-W0603LF-03-1001-B-P-LT_1
designator R?, comment 1k  Tolerance: 0.1%
SMD resistor 0.1%; Manufacturer Part Number: PCF-W0603LF-03-1001-B-P-LT; Manufacturer: IRC / TT Electronics; Created from: MGremer; PartID: 163; Created On: 14.12.2020 16:17:14; ComponentLink1Description: Datasheet; ComponentLink1URL: https://www.mouser.de/datasheet/2/414/PCF-1528243.pdf; Component Type: SMD resistor; Device Package: 0603; Last Updated: 02.03.2021 14:07:32; Mounting Type: SMD; Supplier 1: Mouser; Supplier Part Number 1: 66-PCFW0603LF031001B; Type: Resistor; Live Cycle Status: 1; Stock number: not stored
footprint RES 0603_1608
footprint RES 0603_1608 NO TO
pins: 1, 2

## PDSE1-S24-S12-M-TR
designator PS?
Isolated, 21.6 -26.4Vin, 12V out, 1W, 84mA out; Manufacturer: CUI Inc.; Created from: DHufnagel; Manufacturer Part Number: PDSE1-S24-S12-M-TR; PartID: 21; Created On: 19.07.2022 14:22:00; ComponentLink1Description: Datasheet; ComponentLink1URL: https://www.mouser.de/datasheet/2/670/pdse1_m-1596038.pdf; Component Type: Isolated DC-DC Converter; Device Package: SMT-5; Last Updated: 19.07.2022 14:22:00; Mounting Type: SMT; Operating Temperature: -40 - 105°C; Series: PDSE1-M; Supplier 1: Mouser; Supplier Part Number 1: 490-PDSE1-S24-S12MTR; Supplier 2: Digi-Key; Supplier Part Number 2: 102-PDSE1-S24-S12-M-TRCT-ND; Type: isolated DC-DC Converter; Value: 1 W; Live Cycle Status: 1; Stock number: not stored
footprint PDSE1S24S12MTR
pins: 1 GND, 2 VIN, 4 0V, 5 +VOUT, 8 NC

## ProjectRevision
designator Revision?  (no BOM)
Value: =ProjectRevision; Created: 2020-01-08_Thilo_Wendt
footprint Designator:comment (prints out designator and comment of a component)

## PU2512FKNP50R001L
designator R?, comment 1mR
Shunt 0.001R, 5W, 1%, 50ppm/°C; Manufacturer: Yageo; Manufacturer Part Number: PU2512FKNP50R001L; RoHS: Yes; Stock 1: 2359; Pricing 1: 1=1,14000, 10=1,02000, 50=0,83000, 100=0,71900, 1000=0,42500, 10000=0,42400 (USD); Value: 1mR; Category: Chip SMD Resistors; Supplier 1: Mouser; Supplier Part Number 1: 603-PU2512FKNP50R01L
footprint R_2512
pins: 1, 2

## PU3921FKMP50R002L
designator R?, comment 2mR
Shunt resistor 2mOhm, 5W, 1%; Manufacturer Part Number: PU3921FKMP50R002L; Manufacturer: YAGEO; Created from: DHufnagel; PartID: 236; Created On: 12.07.2022 07:38:48; ComponentLink1Description: Datasheet; ComponentLink1URL: https://www.mouser.de/datasheet/2/447/PYu_PU_51_RoHS_L_8-3003083.pdf; Component Type: Shunt SMD resistor; Device Package: 3921; Last Updated: 19.08.2022 12:28:29; Mounting Type: SMD; Supplier 1: Mouser; Supplier Part Number 1: 603-PU3921FKMP50R002; Type: Shunt; Tolerance: 1%; Value: 2mR; Live Cycle Status: 1; Stock number: not stored
footprint 3921
pins: 1, 2

## RAA2261104GNP#HA0
designator IC?
Low -Side GaN FET-Driver, 6,5V - 18V; Manufacturer: Renesas; Manufacturer Part Number: RAA2261104GNP#HA0; RoHS: No; Pricing 1: 75=3,32000, 100=2,88000, 250=2,42000, 500=2,34000 (USD); Supplier 1: Digi-Key; Supplier Part Number 1: 20-RAA2261104GNP#HA0CT-ND
footprint RAA2261104GNP#HA0
pins: 0 PAD, 1 FLT, 2 EN, 3 INB, 4 IN, 5 IGSEL, 6 IDSET, 7 ISNSN, 8 ISNSP, 9 VEEL, 10 OUTL, 11 OUTH, 12 VDRV, 13 VEEH, 14 VSSP, 15 VSS, 16 VDD

## RC0603JR-070RL
designator R?, comment 0R
SMD resistor E24 series; Manufacturer Part Number: RC0603JR-070RL; Manufacturer: YAGEO; Tolerance: 5%; Created from: MGremer; PartID: 1; Created On: 14.12.2020 16:17:14; ComponentLink1Description: Datasheet; ComponentLink1URL: https://www.mouser.de/datasheet/2/447/PYu-RC_Group_51_RoHS_L_10-1664068.pdf; Component Type: SMD resistor; Device Package: 0603; Last Updated: 04.03.2021 09:09:42; Mounting Type: SMD; Supplier 1: Mouser; Supplier Part Number 1: 603-RC0603JR-070RL; Supplier 2: LCSC; Supplier Part Number 2: C21189; Type: Resistor; Value: 0R; Live Cycle Status: 1; Stock number: Labor SMD Container; LCSC Part Number: C21189
footprint RES 0603_1608
footprint RES 0603_1608 NO TO
pins: 1, 2

## REF4132B25DBVRQ1
designator IC?
Voltage Reference, 2.5V, ±0.05%, ±10mA; Manufacturer: Texas Instruments; Created from: DHufnagel; Manufacturer Part Number: REF4132B25DBVRQ1; PartID: 10; Created On: 08.07.2022 12:48:56; ComponentLink1Description: Datasheet; ComponentLink1URL: https://www.ti.com/general/docs/suppproductinfo.tsp?distId=26&gotoUrl=https://www.ti.com/lit/gpn/ref4132-q1; Component Type: Voltage Reference; Device Package: SMD; Last Updated: 08.07.2022 12:59:37; Mounting Type: SMD; Operating Temperature: -40 - 125 °C; Series: -40 - 125 °C; Supplier 1: Mouser; Supplier Part Number 1: 595-REF4132B25DBVRQ1; Supplier 2: Digi-Key; Supplier Part Number 2: 296-REF4132B25DBVRQ1CT-ND; Type: Voltage Reference; Value: 2.5 V; Live Cycle Status: 1; Stock number: not stored
footprint SOT95P280X145-5N
pins: 1 N/C, 2 GND, 3 EN, 4 VIN, 5 VREF

## RK73B1JTTD103J
designator R?, comment 10k
SMD resistor E24 series; Manufacturer Part Number: RK73B1JTTD103J; Manufacturer: KOA Speer; Tolerance: 5%; Created from: MGremer; PartID: 98; Created On: 14.12.2020 16:17:14; ComponentLink1Description: Datasheet; ComponentLink1URL: https://www.mouser.de/datasheet/2/219/RK73B-1825463.pdf; Component Type: SMD resistor; Device Package: 0603; Last Updated: 27.05.2022 14:04:22; Mounting Type: SMD; Supplier 1: Mouser; Supplier Part Number 1: 660-RK73B1JTTD103J; Type: Resistor; Value: 10k; Live Cycle Status: 1; Stock number: Labor SMD Container; LCSC Part Number: C25804
footprint RES 0603_1608
footprint RES 0603_1608 NO TO
pins: 1, 2

## RK73B1JTTDD5R6J
designator R?, comment 5.6R
SMD resistor E24 series; Manufacturer Part Number: RK73B1JTTDD5R6J; Manufacturer: KOA Speer; Tolerance: 5%; Created from: MGremer; PartID: 20; Created On: 14.12.2020 16:17:14; ComponentLink1Description: Datasheet; ComponentLink1URL: https://www.mouser.de/datasheet/2/219/RK73B-1825463.pdf; Component Type: SMD resistor; Device Package: 0603; Last Updated: 02.03.2021 14:07:32; Mounting Type: SMD; Supplier 1: Mouser; Supplier Part Number 1: 660-RK73B1JTTDD5R6J; Type: Resistor; Value: 5.6R; Live Cycle Status: 1; Stock number: Labor SMD Container
footprint RES 0603_1608
footprint RES 0603_1608 NO TO
pins: 1, 2

## RK73B1JTTDD181J
designator R?, comment 180R
SMD resistor E24 series; Manufacturer Part Number: RK73B1JTTDD181J; Manufacturer: KOA Speer; Tolerance: 5%; Created from: MGremer; PartID: 56; Created On: 14.12.2020 16:17:14; ComponentLink1Description: Datasheet; ComponentLink1URL: https://www.mouser.de/datasheet/2/219/RK73B-1825463.pdf; Component Type: SMD resistor; Device Package: 0603; Last Updated: 27.05.2022 13:42:11; Mounting Type: SMD; Supplier 1: Mouser; Supplier Part Number 1: 660-RK73B1JTTDD181J; Type: Resistor; Value: 180R; Live Cycle Status: 1; Stock number: Labor SMD Container; LCSC Part Number: C22828
footprint RES 0603_1608
footprint RES 0603_1608 NO TO
pins: 1, 2

## RK73B1JTTDD221J
designator R?, comment 220R
SMD resistor E24 series; Manufacturer Part Number: RK73B1JTTDD221J; Manufacturer: KOA Speer; Tolerance: 5%; Created from: MGremer; PartID: 58; Created On: 14.12.2020 16:17:14; ComponentLink1Description: Datasheet; ComponentLink1URL: https://www.mouser.de/datasheet/2/219/RK73B-1825463.pdf; Component Type: SMD resistor; Device Package: 0603; Last Updated: 02.03.2021 14:07:32; Mounting Type: SMD; Supplier 1: Mouser; Supplier Part Number 1: 660-RK73B1JTTDD221J; Type: Resistor; Value: 220R; Live Cycle Status: 1; Stock number: Labor SMD Container
footprint RES 0603_1608
footprint RES 0603_1608 NO TO
pins: 1, 2

## RK73B1JTTDD821J
designator R?, comment 820R
SMD resistor E24 series; Manufacturer Part Number: RK73B1JTTDD821J; Manufacturer: KOA Speer; Tolerance: 5%; Created from: MGremer; PartID: 72; Created On: 14.12.2020 16:17:14; ComponentLink1Description: Datasheet; ComponentLink1URL: https://www.mouser.de/datasheet/2/219/RK73B-1825463.pdf; Component Type: SMD resistor; Device Package: 0603; Last Updated: 02.03.2021 14:07:32; Mounting Type: SMD; Supplier 1: Mouser; Supplier Part Number 1: 660-RK73B1JTTDD821J; Type: Resistor; Value: 820R; Live Cycle Status: 1; Stock number: Labor SMD Container
footprint RES 0603_1608
footprint RES 0603_1608 NO TO
pins: 1, 2

## RK73H1JTTD49R9F
designator R?, comment 49R9
SMD resistor 1%; Manufacturer Part Number: RK73H1JTTD49R9F; Manufacturer: KOA Speer; Created from: DHufnagel; PartID: 214; Created On: 14.12.2020 16:17:14; ComponentLink1Description: Datasheet; ComponentLink1URL: https://www.mouser.de/datasheet/2/219/RK73H-1825326.pdf; Component Type: SMD resistor; Device Package: 0603; Last Updated: 27.05.2022 13:46:35; Mounting Type: SMD; Supplier 1: Mouser; Supplier Part Number 1: 660-RK73H1JTTD49R9F; Supplier 2: LCSC; Supplier Part Number 2: C160046; Type: Resistor; Tolerance: 1%; Value: 49R9; Live Cycle Status: 1; Stock number: not stored; LCSC Part Number: C160046
footprint RES 0603_1608
footprint RES 0603_1608 NO TO
pins: 1, 2

## RQ73C1J10KBTD
designator R?, comment 10k  Tolerance: 0.1%
SMD resistor 0.1%, 10ppm; Manufacturer Part Number: RQ73C1J10KBTD; Manufacturer: TE Connectivity; Created from: DHufnagel; PartID: 231; Created On: 14.12.2020 16:17:14; ComponentLink1Description: Datasheet; ComponentLink1URL: https://www.mouser.de/datasheet/2/418/5/ENG_DS_1773270_2_B-1533717.pdf; Component Type: SMD resistor; Device Package: 0603; Last Updated: 25.07.2022 10:07:28; Mounting Type: SMD; Supplier 1: Mouser; Supplier Part Number 1: 279-RQ73C1J10KBTD; Type: Resistor; Value: 10k; Live Cycle Status: 1; Stock number: not stored
footprint RES 0603_1608
footprint RES 0603_1608 NO TO
pins: 1, 2

## RQ73C1J110KBTD
designator R?, comment 110k  Tolerance: 0.1%
SMD resistor 0.1%, 10ppm; Manufacturer Part Number: RQ73C1J110KBTD; Manufacturer: TE Connectivity / Holsworthy; Created from: DHufnagel; PartID: 216; Created On: 14.12.2020 16:17:14; ComponentLink1Description: Datasheet; ComponentLink1URL: https://www.mouser.de/datasheet/2/418/5/ENG_DS_1773270_2_B-1533717.pdf; Component Type: SMD resistor; Device Package: 0603; Last Updated: 02.03.2021 14:07:32; Mounting Type: SMD; Supplier 1: Mouser; Supplier Part Number 1: 279-RQ73C1J110KBTD; Type: Resistor; Value: 110k; Live Cycle Status: 1; Stock number: not stored
footprint RES 0603_1608
footprint RES 0603_1608 NO TO
pins: 1, 2

## RT0603FRE073K9L
designator R?, comment 3k9
SMD resistor E24 series; Manufacturer Part Number: RT0603FRE073K9L; Manufacturer: YAGEO; Tolerance: 1%; Created from: DHufnagel; PartID: 250; Created On: 14.12.2020 16:17:14; ComponentLink1Description: Datasheet; ComponentLink1URL: https://www.mouser.de/datasheet/2/447/PYu_RT_1_to_0_01_RoHS_L_12-3003070.pdf; Component Type: SMD resistor; Device Package: 0603; Last Updated: 02.03.2021 14:07:32; Mounting Type: SMD; Supplier 1: Mouser; Supplier Part Number 1: 603-RT0603FRE073K9L; Type: Resistor; Value: 3k9; Live Cycle Status: 1; Stock number: not stored
footprint RES 0603_1608
footprint RES 0603_1608 NO TO
pins: 1, 2

## SerialNumber
designator Serial?, comment Serial #  (no BOM)
Empty serial number of the PCB. Can be used for manually writing the serial number
footprint SERIAL
text: Serial

## SN74LVC2G14DBVR
designator IC?
Dual Schmitt Trigger Inverter; Manufacturer: Texas Instruments; Created from: MGremer; Manufacturer Part Number: SN74LVC2G14DBVR; PartID: 12; Created On: 08.11.2021 12:38:27; ComponentLink1Description: Datasheet; ComponentLink1URL: https://www.ti.com/lit/ds/symlink/sn74lvc2g14.pdf; Component Type: Inverter; Device Package: SOT-23-6; Last Updated: 27.05.2022 17:40:18; Mounting Type: SMD; Operating Temperature: -40 - 125 °C; Series: SN74LVC2G14; Supplier 1: Mouser; Supplier Part Number 1: 595-SN74LVC2G14DBVR; Type: Inverter; Live Cycle Status: 1
footprint SOT95P280X145-6N
pins: 1 1A, 2 GND, 3 2A, 4 2Y, 5 VCC, 6 1Y

## UMK107AB7105KA-T
designator C?, comment 1 µF
Capacitor 0603, 50 VDC, 1 µF, X7R; Manufacturer Part Number: UMK107AB7105KA-T; Manufacturer: Taiyo Yuden; Tolerance: 10 %; Voltage Rating: 50 VDC; Created from: MGremer; PartID: 5; Created On: 20.12.2020 13:54:13; ComponentLink1Description: Datasheet; ComponentLink1URL: https://www.mouser.de/datasheet/2/396/mlcc02_e-1307760.pdf; Component Type: Capacitor 0603; Device Package: 0603; Last Updated: 27.05.2022 14:11:21; Mounting Type: SMD; Operating Temperature: -55 - 125°C; Series: M; Supplier 1: Mouser; Supplier Part Number 1: 963-UMK107AB7105KA-T; Type: Capacitor; Value: 1 µF; Live Cycle Status: 1; Stock number: Labor SMD Container; LCSC Part Number: C15849
footprint C_0603
pins: 1, 2